# Altium footprint library LPEDT_revA1_bikeit.PcbLib: 45 footprints (part 1 of 3)
Each footprint in its own frame and in the unit in brackets; x right, y up, seen from the top. Pads: shape width x height; smd on the part's side, far side on the other; paste and mask are expansions set on the pad; w line width, h text height; cw(c..) or ccw(c..) is an arc to the next point about the centre after c.
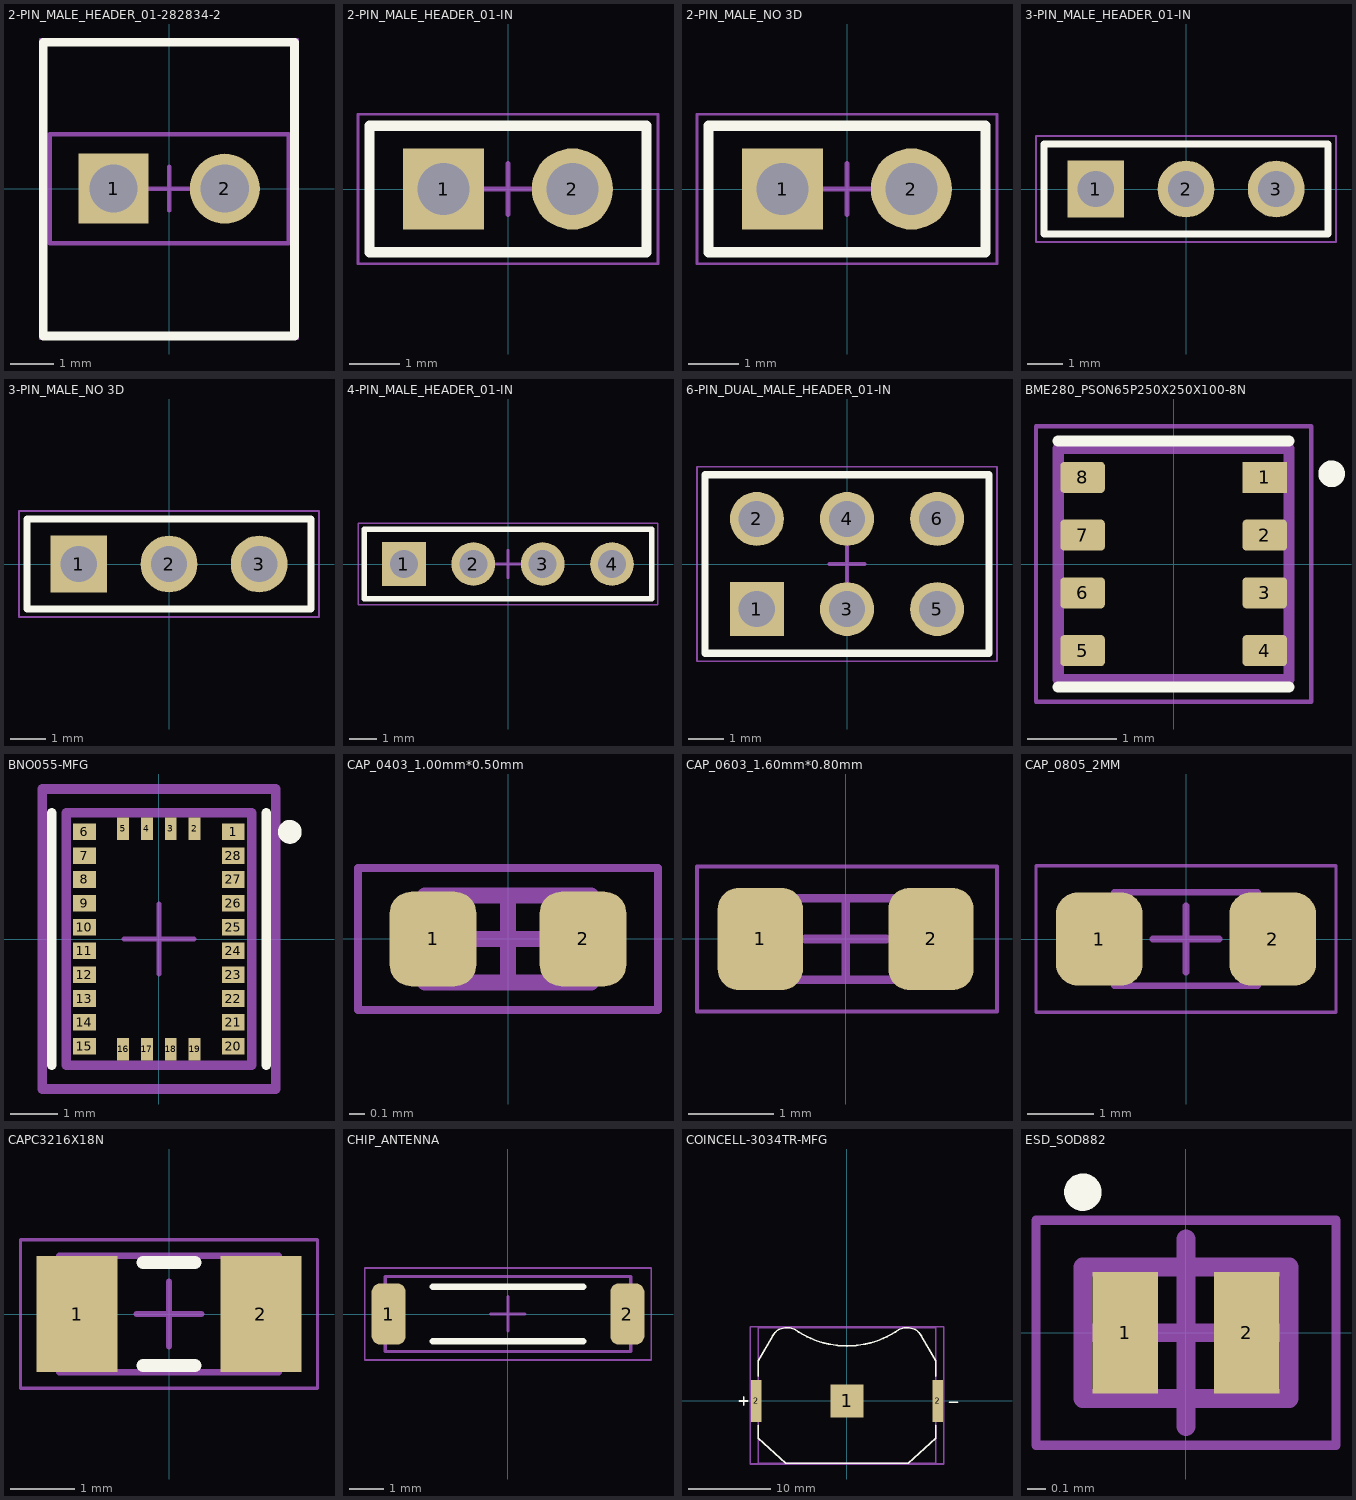
[diagram p0: the footprints below, top view; thin cyan lines are the x and y axes]

## 2-PIN_MALE_HEADER_01-282834-2 [mm] "Terminal Assembly, 1x2 Pins, Vertical, 2.54mm Pitch, Male"
height 10
pads (2):
  rect 1.6x1.6 hole 1.1: 1(-1.27,0)
  round 1.6 hole 1.1: 2(1.27,0)
Top Overlay:
  lines w0.2: -2.879,3.335 -2.879,-3.365 2.861,-3.365 ; -2.879,3.343 2.861,3.343 ; 2.865,-3.365 2.865,3.335
Mechanical 13:
  lines w0.1: -2.73,1.245 -2.73,-1.245 2.73,-1.245 2.73,1.245 -2.73,1.245
  text ".Designator" at -2.182,-0.656 h1.1
Mechanical 15:
  lines w0.05: -2.95,-3.435 2.941,-3.435 2.941,3.419 -2.95,3.419 -2.95,-3.435
  lines w0.1: -0.5,0 0.5,0 ; 0,-0.5 0,0.5
3D body "c-282834-2-c-3d.stp": height 10, standoff -3.4, extent -2.776,-3.262 2.764,3.238

## 2-PIN_MALE_HEADER_01-IN [mm] "Terminal Assembly, 1x2 Pins, Vertical, 2.54mm Pitch, Male"
height 6.02
pads (2):
  rect 1.6x1.6 hole 1.02: 1(-1.27,0)
  round 1.6 hole 1.02: 2(1.27,0)
Top Overlay:
  lines w0.2: -2.73,-1.245 -2.73,1.245 2.73,1.245 2.73,-1.245 -2.73,-1.245
Mechanical 13:
  lines w0.1: -2.73,1.245 -2.73,-1.245 2.73,-1.245 2.73,1.245 -2.73,1.245
  text ".Designator" at -1.524,-0.635 h1.3
Mechanical 15:
  lines w0.05: -2.955,-1.47 -2.955,1.47 2.955,1.47 2.955,-1.47 -2.955,-1.47
  lines w0.1: -0.5,0 0.5,0 ; 0,-0.5 0,0.5
3D body "User Library-Header_Male_2Pin.STEP": height 8.54, standoff -3, extent -2.54,-1.22 2.54,1.27

## 2-PIN_MALE_NO 3D [mm] "Terminal Assembly, 1x2 Pins, Vertical, 2.54mm Pitch, Male"
height 6.02
pads (2):
  rect 1.6x1.6 hole 1.02: 1(-1.27,0)
  round 1.6 hole 1.02: 2(1.27,0)
Top Overlay:
  lines w0.2: -2.73,-1.245 2.73,-1.245 2.73,1.245 -2.73,1.245 -2.73,-1.245
Mechanical 13:
  lines w0.1: -2.73,1.245 2.73,1.245 2.73,-1.245 -2.73,-1.245 -2.73,1.245
  text ".Designator" at -1.524,-0.635 h1.3
Mechanical 15:
  lines w0.05: -2.955,-1.47 2.955,-1.47 2.955,1.47 -2.955,1.47 -2.955,-1.47
  lines w0.1: -0.5,0 0.5,0 ; 0,-0.5 0,0.5

## 3-PIN_MALE_HEADER_01-IN [mm] ".025 SQ Post Terminal Strip Assembly, 1x3 Pins, Vertical, 2.54mm Pitch, Male"
height 8.58
pads (3):
  rect 1.6x1.6 hole 1.02: 1(-2.54,0)
  round 1.6 hole 1.02: 2(0,0) 3(2.54,0)
Top Overlay:
  lines w0.2: -4,-1.27 4,-1.27 4,1.27 -4,1.27 -4,-1.27
Mechanical 13:
  lines w0.1: -4,-1.27 4,-1.27 4,1.27 -4,1.27 -4,-1.27
  text ".Designator" at -3.387,-0.813 h1.1
Mechanical 15:
  lines w0.05: -4.225,-1.495 4.225,-1.495 4.225,1.495 -4.225,1.495 -4.225,-1.495
  lines w0.1: -0.5,0 0.5,0 ; 0,-0.5 0,0.5
3D body "User Library-Header_Male_3Pin.STEP": height 8.54, standoff -3, extent -3.81,-1.27 3.81,1.22

## 3-PIN_MALE_NO 3D [mm] ".025 SQ Post Terminal Strip Assembly, 1x3 Pins, Vertical, 2.54mm Pitch, Male"
height 8.58
pads (3):
  rect 1.6x1.6 hole 1.02: 1(-2.54,0)
  round 1.6 hole 1.02: 2(0,0) 3(2.54,0)
Top Overlay:
  lines w0.2: -4,-1.27 4,-1.27 4,1.27 -4,1.27 -4,-1.27
Mechanical 13:
  lines w0.1: -4,-1.27 4,-1.27 4,1.27 -4,1.27 -4,-1.27
  text ".Designator" at -3.387,-0.813 h1.1
Mechanical 15:
  lines w0.05: -4.225,-1.495 4.225,-1.495 4.225,1.495 -4.225,1.495 -4.225,-1.495
  lines w0.1: -0.5,0 0.5,0 ; 0,-0.5 0,0.5

## 4-PIN_MALE_HEADER_01-IN [mm] "Assembly .025\" [.64] SQ Post Terminal Strip, 1x4 Pins, Vertical, 2.54mm Pitch, Male"
height 7.061
pads (4):
  rect 1.6x1.6 hole 1.02: 1(-3.81,0)
  round 1.6 hole 1.02: 2(-1.27,0) 3(1.27,0) 4(3.81,0)
Top Overlay:
  lines w0.2: -5.27,-1.27 -5.27,1.27 5.27,1.27 5.27,-1.27 -5.27,-1.27
Mechanical 13:
  lines w0.1: -5.27,-1.27 -5.27,1.27 5.27,1.27 5.27,-1.27 -5.27,-1.27
  text ".Designator" at -4.94,-0.865 h1.1
Mechanical 15:
  lines w0.05: -5.495,-1.495 -5.495,1.495 5.495,1.495 5.495,-1.495 -5.495,-1.495
  lines w0.1: -0.5,0 0.5,0 ; 0,-0.5 0,0.5
3D body "User Library-Header_Male_4Pin.STEP": height 8.54, standoff -3, extent -5.08,-1.27 5.08,1.22

## 6-PIN_DUAL_MALE_HEADER_01-IN [mm] "Terminal Assembly, 2x3 Pins, Vertical, 2.54mm Pitch, Male"
height 6.223
pads (6):
  rect 1.52x1.52 hole 1.02: 1(-2.54,-1.27)
  round 1.52 hole 1.02: 2(-2.54,1.27) 3(0,-1.27) 4(0,1.27) 5(2.54,-1.27) 6(2.54,1.27)
Top Overlay:
  lines w0.2: -4,-2.515 -4,2.515 4,2.515 4,-2.515 -4,-2.515
Mechanical 13:
  lines w0.1: -4,-2.515 4,-2.515 4,2.515 -4,2.515 -4,-2.515
  text ".Designator" at -3.551,-0.425 h1.1
Mechanical 15:
  lines w0.05: -4.225,-2.74 4.225,-2.74 4.225,2.74 -4.225,2.74 -4.225,-2.74
  lines w0.1: -0.5,0 0.5,0 ; 0,-0.5 0,0.5
3D body "pin_header_awl254-dg-g06d.stp": height 8.5, standoff -3, extent -3.81,-2.54 3.81,2.54

## BME280_PSON65P250X250X100-8N [mm]
pads (8):
  rect 0.5x0.35 smd paste+0 mask+0.085: 1(1.025,0.975)
  rrect25% 0.5x0.35 smd paste+0 mask+0.085: 2(1.025,0.325) 3(1.025,-0.325) 4(1.025,-0.975) 5(-1.025,-0.975) 6(-1.025,-0.325) 7(-1.025,0.325) 8(-1.025,0.975)
Top Overlay:
  circle w0.2: c1.778,1.016 r0.05
  lines w0.127: -1.3,-1.385 1.3,-1.385 ; -1.3,1.385 1.3,1.385
Mechanical 13:
  circle w0.2: c1,1 r0.05
  lines w0.127: -1.3,-1.3 1.3,-1.3 1.3,1.3 -1.3,1.3 -1.3,-1.3
  text ".Designator" at -1.143,-1.016 h0.5
Mechanical 15:
  lines w0.05: -1.55,-1.55 -1.55,1.55 1.55,1.55 1.55,-1.55 -1.55,-1.55
3D body "BME280--3DModel-STEP-56544.STEP": height 1, standoff 0, extent -1.25,-1.25 1.25,1.25

## BNO055-MFG [mm]
pads (28):
  rect 0.475x0.35 smd paste+0 mask-1000: 1(1.563,2.25) 6(-1.562,2.25) 7(-1.562,1.75) 8(-1.562,1.25) 9(-1.562,0.75) 10(-1.562,0.25) 11(-1.562,-0.25) 12(-1.562,-0.75) 13(-1.562,-1.25) 14(-1.562,-1.75) 15(-1.562,-2.25) 20(1.563,-2.25) 21(1.563,-1.75) 22(1.563,-1.25) 23(1.563,-0.75) 24(1.563,-0.25) 25(1.563,0.25) 26(1.563,0.75) 27(1.563,1.25) 28(1.563,1.75)
  rect 0.25x0.475 smd paste+0 mask-1000: 2(0.75,2.313) 3(0.25,2.313) 4(-0.25,2.313) 5(-0.75,2.313) 16(-0.75,-2.312) 17(-0.25,-2.312) 18(0.25,-2.312) 19(0.75,-2.312)
Top Overlay:
  circle w0.25: c2.75,2.25 r0.125
  lines w0.2: -2.25,-2.65 -2.25,2.65 ; 2.25,-2.65 2.25,2.65
Top Solder:
  rectangle: -1.825,2.05 -1.3,2.45
  rectangle: -1.825,1.55 -1.3,1.95
  rectangle: -1.825,1.05 -1.3,1.45
  rectangle: -1.825,0.55 -1.3,0.95
  rectangle: -1.825,0.05 -1.3,0.45
  rectangle: -1.825,-0.45 -1.3,-0.05
  rectangle: -1.825,-0.95 -1.3,-0.55
  rectangle: -1.825,-1.45 -1.3,-1.05
  rectangle: -1.825,-1.95 -1.3,-1.55
  rectangle: -1.825,-2.45 -1.3,-2.05
  rectangle: 1.3,2.05 1.825,2.45
  rectangle: 1.3,1.55 1.825,1.95
  rectangle: 1.3,1.05 1.825,1.45
  rectangle: 1.3,0.55 1.825,0.95
  rectangle: 1.3,0.05 1.825,0.45
  rectangle: 1.3,-0.45 1.825,-0.05
  rectangle: 1.3,-0.95 1.825,-0.55
  rectangle: 1.3,-1.45 1.825,-1.05
  rectangle: 1.3,-1.95 1.825,-1.55
  rectangle: 1.3,-2.45 1.825,-2.05
  rectangle: 0.6,2.05 0.9,2.575
  rectangle: 0.1,2.05 0.4,2.575
  rectangle: -0.4,2.05 -0.1,2.575
  rectangle: -0.9,2.05 -0.6,2.575
  rectangle: -0.9,-2.575 -0.6,-2.05
  rectangle: -0.4,-2.575 -0.1,-2.05
  rectangle: 0.1,-2.575 0.4,-2.05
  rectangle: 0.6,-2.575 0.9,-2.05
Mechanical 5:
  lines w0.2: -2.45,-3.15 2.45,-3.15 2.45,3.15 -2.45,3.15 -2.45,-3.15
  text ".Designator" at 0,0 h1
Mechanical 13:
  lines w0.2: -1.95,-2.65 1.95,-2.65 1.95,2.65 -1.95,2.65 -1.95,-2.65
Mechanical 15:
  lines w0.2: -2.45,-3.15 2.45,-3.15 2.45,3.15 -2.45,3.15 -2.45,-3.15
Mechanical 16:
  lines w0.1: -0.735,0 0.735,0 ; 0,-0.735 0,0.735
3D body "IC_Bosch_Sensortec_BNO055_eec.STEP": height 0.25, standoff 0, extent -2.45,-3.15 2.45,3.15

## CAP_0403_1.00mm*0.50mm [mm] "Chip Capacitor, 2-Leads, Body 1.00x0.50mm, IPC Medium Density"
height 0.55
pads (2):
  rrect50% 0.55x0.6 smd: 1(-0.475,0) 2(0.475,0)
Mechanical 13:
  lines w0.1: -0.525,-0.275 0.525,-0.275 0.525,0.275 -0.525,0.275 -0.525,-0.275
  text ".Designator" at -0.439,-0.124 h0.2
Mechanical 15:
  lines w0.05: -0.95,-0.45 0.95,-0.45 0.95,0.45 -0.95,0.45 -0.95,-0.45
  lines w0.1: -0.275,0 0.275,0 ; 0,-0.275 0,0.275
3D body: height 0.55, standoff 0, extent 0.275,-0.275 0.525,0.275
3D body: height 0.55, standoff 0, extent -0.525,-0.275 -0.275,0.275
3D body: height 0.55, standoff 0, extent -0.275,-0.275 0.275,0.275

## CAP_0603_1.60mm*0.80mm [mm] "Chip Capacitor, 2-Leads, Body 1.60x0.80mm, IPC Medium Density"
height 0.95
pads (2):
  rrect50% 1x1.2 smd: 1(-1,0) 2(1,0)
Mechanical 13:
  lines w0.1: -0.875,-0.475 -0.875,0.475 0.875,0.475 0.875,-0.475 -0.875,-0.475
  text ".Designator" at -0.767,-0.202 h0.4
Mechanical 15:
  lines w0.05: -1.741,-0.85 -1.741,0.85 1.773,0.85 1.773,0.698 1.773,-0.152 1.773,-0.85 -1.741,-0.85
  lines w0.1: -0.475,0 0.475,0 ; 0,-0.475 0,0.475
3D body: height 0.95, standoff 0, extent -0.495,-0.475 0.495,0.475
3D body: height 0.95, standoff 0, extent -0.875,-0.475 -0.495,0.475
3D body: height 0.95, standoff 0, extent 0.495,-0.475 0.875,0.475

## CAP_0805_2MM [mm] "Chip Capacitor, 2-Leads, Body 2.00x1.25mm, IPC Medium Density"
height 1.4
pads (2):
  rrect50% 1.3x1.4 smd: 1(-1.3,0) 2(1.3,0)
Mechanical 13:
  lines w0.1: -1.075,-0.7 -1.075,0.7 1.075,0.7 1.075,-0.7 -1.075,-0.7
  text ".Designator" at -0.775,-0.233 h0.5
Mechanical 15:
  lines w0.05: -2.25,-1.1 -2.25,1.1 2.25,1.1 2.25,-1.1 -2.25,-1.1
  lines w0.1: -0.5,0 0.5,0 ; 0,-0.5 0,0.5
3D body "CAP_0805_2MM.step": height 1.4, standoff 0, extent -1.075,-0.7 1.075,0.7

## CAPC3216X18N [mm] "Chip Capacitor, 2-Leads, Body 3.20x1.60mm, IPC Medium Density"
height 1.8
pads (2):
  rect 1.25x1.8 smd: 1(-1.425,0) 2(1.425,0)
Top Overlay:
  lines w0.2: -0.4,-0.8 0.4,-0.8 ; -0.4,0.8 0.4,0.8
Mechanical 13:
  lines w0.1: -1.7,-0.9 1.7,-0.9 1.7,0.9 -1.7,0.9 -1.7,-0.9
Mechanical 15:
  lines w0.05: -2.3,-1.15 2.3,-1.15 2.3,1.15 -2.3,1.15 -2.3,-1.15
  lines w0.1: -0.5,0 0.5,0 ; 0,-0.5 0,0.5
3D body: height 1.8, standoff 0, extent 1.25,-0.9 1.7,0.9
3D body: height 1.8, standoff 0, extent -1.7,-0.9 -1.25,0.9
3D body: height 1.8, standoff 0, extent -1.25,-0.9 1.25,0.9

## CHIP_ANTENNA [mm] "Chip Capacitor, 2-Leads, Body 7.00x2.00mm, IPC Medium Density"
height 1
pads (2):
  rrect50% 1x1.8 smd: 1(-3.5,0) 2(3.5,0)
Top Overlay:
  lines w0.2: -2.2,-0.8 2.2,-0.8 ; -2.2,0.8 2.2,0.8
Mechanical 13:
  lines w0.1: -3.6,-1.1 3.6,-1.1 3.6,1.1 -3.6,1.1 -3.6,-1.1
  text ".Designator" at -2.752,-0.307 h0.5
Mechanical 15:
  lines w0.05: -4.2,-1.35 4.2,-1.35 4.2,1.35 -4.2,1.35 -4.2,-1.35
  lines w0.1: -0.5,0 0.5,0 ; 0,-0.5 0,0.5
3D body "CAPC7020X10N.step": height 1, standoff 0, extent -3.6,-1.1 3.6,1.1

## COINCELL-3034TR-MFG [mm]
pads (3):
  rect 3.962x3.962 smd paste-1000 mask+0: 1(0,0)
  rect 1.27x5.08 smd paste+0 mask+0: 2(-10.985,0) 2(10.985,0)
Top Overlay:
  lines w0.2: -13,0.003 -12,0.003 ; -12.5,-0.497 -12.5,0.503 ; -10.73,-2.927 -10.73,-4.512 -7.4,-7.512 7.4,-7.512 10.73,-4.512 10.73,-2.927 ; -10.73,2.973 -10.73,4.863 -9,7.863 cw(c-7.327,6.963) -7.3,8.863 cw(c-7.185,6.967) -6.33,8.663 ccw(c0,17.659) 6.33,8.663 cw(c7.185,6.967) 7.3,8.863 cw(c7.327,6.963) 9,7.863 10.73,4.863 10.73,2.973 ; 12.372,-0.131 13.372,-0.131
Mechanical 5:
  lines w0.2: -11.72,-7.618 -11.72,8.965 11.72,8.965 11.72,-7.618 -11.72,-7.618
  text ".Designator" at 0,0.861 h1
Mechanical 13:
  lines w0.2: -10.731,-7.518 -10.731,8.865 10.732,8.865 10.732,-7.518 -10.731,-7.518
Mechanical 15:
  lines w0.2: -11.72,-7.618 -11.72,8.965 11.72,8.965 11.72,-7.618 -11.72,-7.618
Mechanical 16:
  lines w0.1: -0.5,0.673 0.5,0.673 ; 0,0.173 0,1.173
3D body "Batt_Keystone_3034TR_eec.STEP": height 0.25, standoff 0, extent -11.72,-7.618 11.72,8.965

## ESD_SOD882 [mm] "DFN, 2-Leads, Body 0.60x1.00mm, Pitch 0.55mm, IPC Medium Density"
height 0.6
pads (2):
  rect 0.35x0.65 smd: 1(-0.325,0) 2(0.325,0)
Top Overlay:
  circle w0.1: c-0.55,0.75 r0.05
Mechanical 13:
  lines w0.1: -0.55,-0.35 0.55,-0.35 0.55,0.35 -0.55,0.35 -0.55,-0.35
  text ".Designator" at -0.296,0.003 h0.2
Mechanical 15:
  lines w0.05: -0.8,-0.6 0.8,-0.6 0.8,0.6 -0.8,0.6 -0.8,-0.6
  lines w0.1: -0.5,0 0.5,0 ; 0,-0.5 0,0.5
3D body "Diode_Littelfuse_Inc_SP1003-01ETG_eec.STEP": height 0.25, standoff 0, extent -0.65,-0.45 0.65,0.45